# Altium schematic symbol library Wurth_Electronics_744775222.SchLib: 1 symbol
Pins are listed as number, name and electrical type; pins without a type are passive.

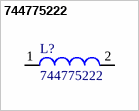
[diagram p0: symbol 744775222]

## 744775222
designator L?
SMD Power Inductor WE-PD2, L = 220 µH; Inductance: 220 ÂµH; ComponentLink1Description: Manufacturer Link; ComponentLink2Description: Datasheet; DatasheetVersion: ver 1, Oct-2004; ComponentLink1URL: http://www.we-online.com; PackageVersion: 2004; PackageDescription: SMD Inductor, 2-Leads, Body 7.8 x 7.0 mm; ComponentLink2URL: http://www.we-online.de/katalog/media/pdf/744775222.pdf; PackageReference: WE-PD2-L; PartNumber: 744775222
footprint WE-PD2-L
footprint WE-PD2-L (SMD Inductor, 2-Leads, Body 7.8 x 7.0 mm)
pins: 1, 2